# Altium schematic symbol library SCH - POWER - LINEAR VREG - TI TLV70718DQN.SchLib: 1 symbol
Pins are listed as number, name and electrical type; pins without a type are passive.

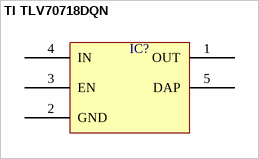
[diagram p0: symbol TI TLV70718DQN]

## TI TLV70718DQN
designator IC?  (value not drawn)
pins: 1 OUT, 2 GND, 3 EN, 4 IN, 5 DAP